# EAGLE library part LOGIC_LEVEL_CONVERTER (library e-radionica_E-R MADE)
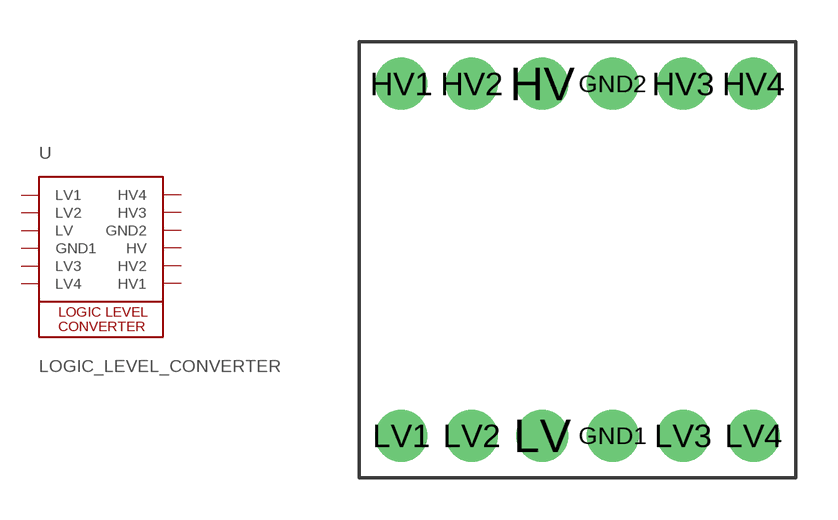
[diagram p11: symbol with the pads of LOGIC_LEVEL_CONVERTER; footprint LOGIC_LEVEL_CONVERTER]

Designator prefix -

## LOGIC_LEVEL_CONVERTER  [LOGIC_LEVEL_CONVERTER]
GND1  GND1  sup
GND2  GND2  sup
HV  HV  sup
HV1  HV1  sup
HV2  HV2  sup
HV3  HV3  sup
HV4  HV4  sup
LV  LV  sup
LV1  LV1  sup
LV2  LV2  sup
LV3  LV3  sup
LV4  LV4  sup

## Footprint LOGIC_LEVEL_CONVERTER (pad centres in mm)
drill 1.016 pad 1.88: GND1 9.144,1.524; GND2 9.144,14.224; HV 6.604,14.224; HV1 1.524,14.224; HV2 4.064,14.224; HV3 11.684,14.224; HV4 14.224,14.224; LV 6.604,1.524; LV1 1.524,1.524; LV2 4.064,1.524; LV3 11.684,1.524; LV4 14.224,1.524